# EAGLE library part 74X4067-16CH-MUX (library FlashPCB_ICs)
74x4067 - IC MUX 16:1 Technical Specifications: 16 Channel Multiplexer/De-Multiplexer IC 16:1 Mulitplexer circuit Operating Voltage: 2V~6V(HC), 4.5V~5.5V(HCT) Component Search: 74x4076-16CH-MUX <https://www.flashpcb.com/components> Datasheet: CD74HC4067, CD74HCT4067 datasheet (Rev. C) <https://www.ti.com/lit/ds/symlink/cd74hc4067.pdf?HQS=dis-dk-null-digikeymode-dsf-pf-null-wwe&ts=1682005876126&ref_url=https%253A%252F%252Fwww.ti.com%252Fgeneral%252Fdocs%252Fsuppproductinfo.tsp%253FdistId%253D10%2526gotoUrl%253Dhttps%253A%252F%252Fwww.ti.com%252Flit%252Fgpn%252Fcd74hc4067>
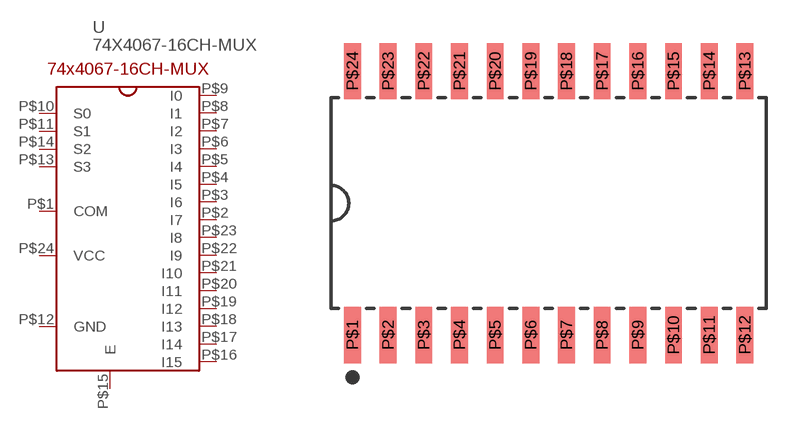
[diagram p7: symbol with the pads of SOIC-24-295MIL-7.5MM; footprint SOIC-24-295MIL-7.5MM]

Designator prefix U

## 74X4067-16CH-MUXSOIC  [SOIC-24-295MIL-7.5MM]
P$1  COM
P$2  I7
P$3  I6
P$4  I5
P$5  I4
P$6  I3
P$7  I2
P$8  I1
P$9  I0
P$10  S0
P$11  S1
P$12  GND
P$13  S3
P$14  S2
P$15  E
P$16  I15
P$17  I14
P$18  I13
P$19  I12
P$20  I11
P$21  I10
P$22  I9
P$23  I8
P$24  VCC

## Footprint SOIC-24-295MIL-7.5MM (pad centres in mm)
smd 0.6 x 2: P$1 -6.985,-4.7; P$2 -5.715,-4.7; P$3 -4.445,-4.7; P$4 -3.175,-4.7; P$5 -1.905,-4.7; P$6 -0.635,-4.7; P$7 0.635,-4.7; P$8 1.905,-4.7; P$9 3.175,-4.7; P$10 4.445,-4.7; P$11 5.715,-4.7; P$12 6.985,-4.7; P$13 6.985,4.7; P$14 5.715,4.7; P$15 4.445,4.7; P$16 3.175,4.7; P$17 1.905,4.7; P$18 0.635,4.7; P$19 -0.635,4.7; P$20 -1.905,4.7; P$21 -3.175,4.7; P$22 -4.445,4.7; P$23 -5.715,4.7; P$24 -6.985,4.7